# Altium schematic symbol library MCU127_M2-CC3351_RevA.SCHLIB: 42 symbols
Pins are listed as number, name and electrical type; pins without a type are passive.

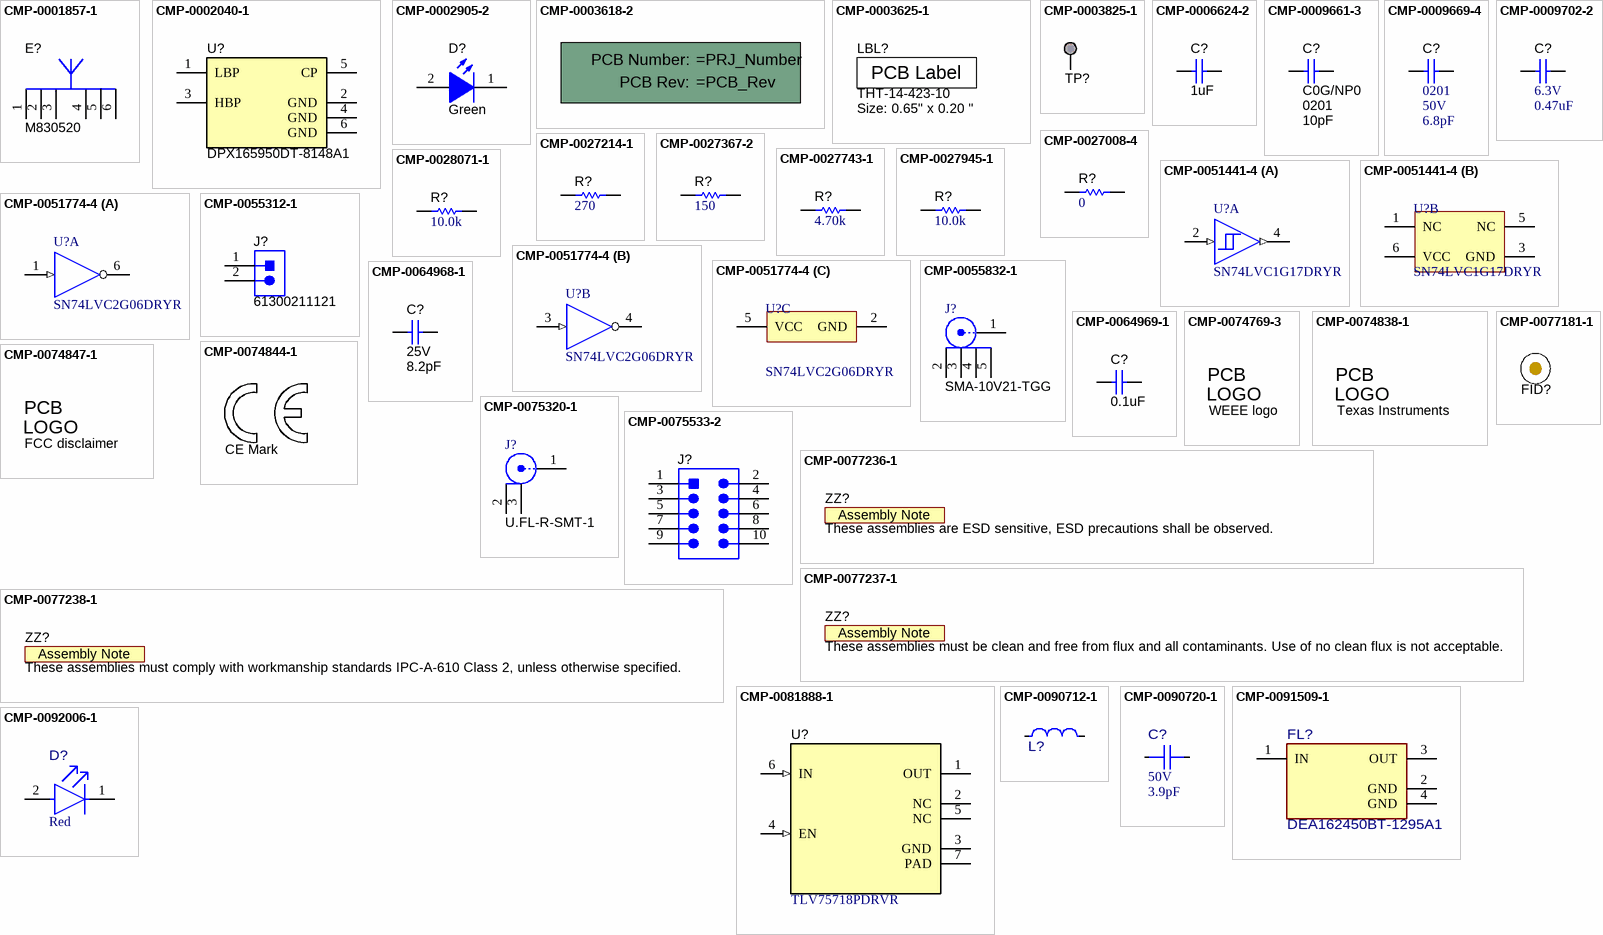
[diagram p0: symbols CMP-0001857-1 to CMP-0092006-1]

## CMP-0001857-1
designator E?, comment M830520
WLAN ANTENNA 802.11, SMD; Manufacturer: Ethertronics; Alternate Manufacturer: ----; SizeAreaWB_mm2: 50; SizeArea_mm2: 24; SizeX_mm: 3; SizeY_mm: 8; SizeZ_mm: 1.33; PartNumber: M830520; CompType: Antenna; MountType: SMT; ComponentLink1Description: Datasheet URL; ComponentLink1URL: http://www.ethertronics.com/files/6014/0708/4228/Savvi_WLAN__8x3_M830510.pdf; RoHS: Y; PackageReference: 8x3mm; Publisher: Texas Instruments; LatestRevisionDate: 09/03/2017; Alternate PartNumber: ----
footprint Ethertronics_M830520 (SMD, 6-Leads, Body 8x3mm)
pins: 1 Feed, 2 GND (power), 3 GND (power), 4 Feed, 5, 6

## CMP-0002040-1
designator U?  PartNumber: DPX165950DT-8148A1  (hidden comment: CMP-0002040-1)
Multilayer Diplexer for 2.4GHz W-LAN & Bluetooth / 5GHz W-LAN; Manufacturer: TDK; Alternate Manufacturer: ----; SizeAreaWB_mm2: 4.68; SizeArea_mm2: 1.28; SizeX_mm: 0.8; SizeY_mm: 1.6; SizeZ_mm: 0.7; CompType: Diplexer; MountType: SMT; ComponentLink1Description: Datasheet URL; ComponentLink1URL: https://sps06.itg.ti.com/sites/KMS/crossdivteams/altium/docs/ComponentDatasheets/DPX165950DT-8148A1.pdf; RoHS: Y; PackageReference: 1.6x0.8mm; Publisher: Texas Instruments; LatestRevisionDate: 09/03/2017; Alternate PartNumber: ----; Supplier 1: Digi-Key; Supplier Part Number 1: 445-174759-1-ND; Supplier 2: Mouser; Supplier Part Number 2: 810-DPX16595DT8148A1
footprint TDK_DPX165950DT-8148A1 (SMD, 6-Leads, Body 1.6x0.8mm)
pins: 1 LBP, 2 GND (power), 3 HBP, 4 GND (power), 5 CP, 6 GND (power)

## CMP-0002905-2
designator D?, comment value Green  (hidden comment: CMP-0002905-1)
LED, Green, SMD; Manufacturer: Wurth Elektronik; PartNumber: 150060GS75000; Type: InGaN; Vf_V: 3.2V; Io_A: 20mA; Tjmax_C: 85°C; Value1: W; Angle: 140; CompType: LED; MountType: SMT; RoHS: Y; PackageReference: LED_0603; Value2: 3.2V; Color: Green; ComponentLink1URL: http://katalog.we-online.de/led/datasheet/150060GS75000.pdf; ComponentLink1Description: Datasheet link
footprint WL-SMCW_GREEN (WURTH)
pins: 1 K, 2 A

## CMP-0003618-2
designator PCB?, comment Printed Circuit Board  (value not drawn)  (mechanical)
Manufacturer: Any; CompType: PCB; PartNumber: =PRJ_Number; RoHS: O; MountType: N/A; Publisher: Texas Instruments; LatestRevisionDate: 2017-03-09; Key: PCB
1 alternate drawing of the same symbol
text: PCB Number:; PCB Rev:

## CMP-0003625-1
designator LBL?, comment THT-14-423-10  Note: Size: 0.65" x 0.20 "  (no BOM)
Thermal Transfer Printable Labels, 0.650" W x 0.200" H - 10,000 per roll; Manufacturer: Brady; CompType: Label; ClassName: Label; PartNumber: THT-14-423-10; RoHS: Y; PackageReference: PCB Label 0.650 x 0.200 inch; MountType: N/A; ComponentLink1Description: Web Page; ComponentLink1URL: http://www.bradyid.com/bradyid/pdpv/THT-14-423-10.html; Publisher: Texas Instruments; LatestRevisionDate: 2017-03-09; Supplier 1: Newark; Supplier Part Number 1: 97C5133; Supplier 2: Farnell; Supplier Part Number 2: 2065596; Key: THT-14-423-10
footprint Label_650x200 (Thermal Transfer Label)
text: PCB Label

## CMP-0003825-1
designator TP?, comment TP_SM_1MM  (value not drawn)  (no BOM)
1mm Test Point, SMT; Manufacturer: Any; ComponentLink1URL: https://sps06.itg.ti.com/sites/KMS/crossdivteams/altium/docs/ComponentDatasheets/PROBE_TEST_POINT.png; Key: TP_SM_1MM; Publisher: Texas Instruments; CompType: Test Point; PackageReference: 1mm Test Point, SMT; LatestRevisionDate: 2017-03-09; MountType: SMT; PartNumber: TP_SM_1MM; ComponentLink1Description: Datasheet Link
footprint TP_SM_1MM (1mm Test Point, SMT)
pins: 1

## CMP-0006624-2
designator C?, comment ValueDisplayed: 1uF  (hidden comment: GRM155R70J105MA12D)
CAP, CERM, 1 uF, 6.3 V, +/- 20%, X7R, 0402; Manufacturer: MuRata; TaMin_C: -55°C; Polarized: N; SizeAreaWB_mm2: 3; Value1: Unknown; U/M: EA; Value: 1uF; TaMax_C: 125°C; SizeZ_mm: 0.6; SizeX_mm: 1; SizeY_mm: 0.5; Cap_Case: 0402; Value2: 6.3V; CompType: Capacitor; Cap_F: 1µF; AEC Category: Q200; Supplier Part Number 2: 81-GRM155R70J105MA2D; Publisher: Texas Instruments; Supplier 2: Mouser; TempCo: X7R; Published: 2008-06-19; RoHS: Y; MountType: SMT; Supplier 1: Digi-Key; PackageReference: 0402; Tolerance_%: 20%; SizeArea_mm2: 0.5; LatestRevisionDate: 2017-03-09; PartNumber: GRM155R70J105MA12D; AEC Qualified: N; VDC_V: 6.3V; ComponentLink1Description: Datasheet link; AEC Grade: N/A; Supplier Part Number 1: 490-9665-1-ND; Technology: Ceramic; ComponentLink1URL: http://psearch.en.murata.com/capacitor/product/GRM155R70J105MA12%23.pdf
footprint 0402 (0402 from SM-752 data)
footprint 0402S (Based on C0402S footprint from PADS legacy)
footprint 0402L (0402 from SM-752 data)
footprint 0402M (0402 from SM-752 data)
pins: 1, 2

## CMP-0009661-3
designator C?, comment TempCo: C0G/NP0  Cap_Case: 0201  ValueDisplayed: 10pF  (hidden comment: GJM0335C1E100JB01D)
CAP, CERM, 10 pF, 25 V, +/- 5%, C0G/NP0, 0201; Manufacturer: MuRata; TaMin_C: -55°C; Polarized: N; SizeAreaWB_mm2: 2.08; Value1: Unknown; U/M: EA; Value: 10pF; TaMax_C: 125°C; SizeZ_mm: 0.26; SizeX_mm: 0.6; SizeY_mm: 0.3; Value2: 25V; SizeArea_mm2: 0.18; CompType: Capacitor; AEC Category: Q200; Supplier Part Number 2: 81-GJM0335C1E100JB1D; Publisher: Texas Instruments; Supplier 2: Mouser; Published: 2008-06-19; RoHS: Y; MountType: SMT; Supplier 1: Digi-Key; PackageReference: 0201; Tolerance_%: 5%; LatestRevisionDate: 2017-03-09; PartNumber: GJM0335C1E100JB01D; AEC Qualified: N; Cap_F: 10pF; VDC_V: 25V; ComponentLink1Description: Datasheet link; AEC Grade: N/A; Supplier Part Number 1: GJM0335C1E100JB01D-ND; Technology: Ceramic; ComponentLink1URL: http://search.murata.co.jp/Ceramy/image/img/A01X/G101/ENG/GJM0335C1E100JB01-01.pdf
footprint 0201 (Data from Kemet datasheet CC101_COM dated 7/28/11)
footprint 0201_Silk (Data from Kemet datasheet CC101_COM dated 7/28/11)
footprint 0201L (Data from Kemet datasheet CC101_COM dated 7/28/11)
footprint 0201M (Data from Kemet datasheet CC101_COM dated 7/28/11)
pins: 1, 2

## CMP-0009669-4
designator C?, comment PackageReference: 0201  VDC_V: 50V  ValueDisplayed: 6.8pF  (hidden comment: GRM0335C1H6R8BA01D)
CAP, CERM, 6.8 pF, 50 V, +/- 2%, C0G/NP0, 0201; Manufacturer: MuRata; TaMin_C: -55°C; Polarized: N; SizeAreaWB_mm2: 2.08; Value1: Unknown; U/M: EA; Value: 6.8pF; TaMax_C: 125°C; SizeZ_mm: 0.26; SizeX_mm: 0.6; SizeY_mm: 0.3; SizeArea_mm2: 0.18; CompType: Capacitor; AEC Category: Q200; Supplier Part Number 2: 81-GRM0335C1H6R8BA1D; Publisher: Texas Instruments; Supplier 2: Mouser; TempCo: C0G/NP0; Published: 2008-06-19; RoHS: Y; MountType: SMT; Supplier 1: Digi-Key; Tolerance_%: 2%; Cap_Case: 0201; Value2: 50V; LatestRevisionDate: 2017-03-09; PartNumber: GRM0335C1H6R8BA01D; AEC Qualified: N; Cap_F: 6.8pF; ComponentLink1Description: Datasheet link; AEC Grade: N/A; Supplier Part Number 1: GRM0335C1H6R8BA01D-ND; Technology: Ceramic; ComponentLink1URL: http://search.murata.co.jp/Ceramy/image/img/A01X/G101/ENG/GRM0335C1H6R8BA01-01.pdf
footprint 0201 (Data from Kemet datasheet CC101_COM dated 7/28/11)
footprint 0201_Silk (Data from Kemet datasheet CC101_COM dated 7/28/11)
footprint 0201L (Data from Kemet datasheet CC101_COM dated 7/28/11)
footprint 0201M (Data from Kemet datasheet CC101_COM dated 7/28/11)
pins: 1, 2

## CMP-0009702-2
designator C?, comment VDC_V: 6.3V  ValueDisplayed: 0.47uF  (hidden comment: GRM033R60J474KE90D)
CAP, CERM, 0.47 uF, 6.3 V, +/- 10%, X5R, 0201; Manufacturer: MuRata; TaMin_C: -55°C; Polarized: N; SizeAreaWB_mm2: 2.08; Value1: Unknown; U/M: EA; Value: 0.47uF; TaMax_C: 85°C; SizeZ_mm: 0.33; SizeX_mm: 0.6; SizeY_mm: 0.3; Cap_Case: 0201; SizeArea_mm2: 0.18; CompType: Capacitor; Cap_F: 470nF; AEC Category: Q200; Supplier Part Number 2: 81-GRM33R60J474KE90D; Publisher: Texas Instruments; Supplier 2: Mouser; TempCo: X5R; Published: 2008-06-19; RoHS: Y; MountType: SMT; Supplier 1: Digi-Key; PackageReference: 0201; Tolerance_%: 10%; Value2: 6.3V; LatestRevisionDate: 2017-03-09; PartNumber: GRM033R60J474KE90D; AEC Qualified: N; ComponentLink1Description: Datasheet link; AEC Grade: N/A; Supplier Part Number 1: 490-10409-1-ND; Technology: Ceramic; ComponentLink1URL: http://psearch.en.murata.com/capacitor/product/GRM033R60J474KE90%23.pdf
footprint 0201_033 (SMD, 2-Leads, Height 0.33mm)
footprint 0201_033L (0201)
footprint 0201_033M (0201)
pins: 1, 2

## CMP-0027008-4
designator R?, comment ValueDisplayed: 0  (hidden comment: CRCW02010000Z0ED)
RES, 0, 5%, 0.05 W, 0201; Manufacturer: Vishay-Dale; Power_W: 50mW; TempCo: ppm/C; Value_Code: 0000; Value: 0; EIA_Code: E24; SizeX_mm: 0.6; SizeY_mm: 0.3; SizeZ_mm: 0.26; Value2: 0.05W; SizeArea_mm2: 0.18; CompType: Resistor; AEC Qualified: N; AEC Category: Q200; RoHS: E; Value1: 5%; MountType: SMT; Supplier 1: Newark; PackageReference: 0201; Tolerance_%: 5%; Res_ohm: 0; PartNumber: CRCW02010000Z0ED; ComponentLink1Description: Datasheet link; AEC Grade: N/A; Supplier Part Number 1: 72M6743; Technology: Thick Film; ComponentLink1URL: http://www.vishay.com/docs/20052/crcw0201e3.pdf
footprint 0201 (Data from Kemet datasheet CC101_COM dated 7/28/11)
footprint 0201_Silk (Data from Kemet datasheet CC101_COM dated 7/28/11)
footprint 0201L (Data from Kemet datasheet CC101_COM dated 7/28/11)
footprint 0201M (Data from Kemet datasheet CC101_COM dated 7/28/11)
pins: 1, 2

## CMP-0027214-1
designator R?, comment ValueDisplayed: 270  (hidden comment: RC0201FR-07270RL)
RES, 270, 5%, 0.05 W, 0201; Manufacturer: Yageo America; PartNumber: RC0201JR-7D270RL; Power_W: 50mW; TempCo: 200 ppm/C; Value_Code: 270R; U/M: EA; Value: 270; EIA_Code: E24; SizeX_mm: 0.6; SizeY_mm: 0.3; SizeZ_mm: 0.26; Value2: 0.05W; SizeArea_mm2: 0.18; CompType: Resistor; AEC Qualified: N; VDC_V: 25V; AEC Category: Q200; ComponentLink1URL: http://www.yageo.com/documents/recent/PYu-RC_Group_51_RoHS_L_5.pdf; Publisher: Texas Instruments; Published: 2016-10-14; RoHS: Y; Value1: 5%; MountType: SMT; Supplier 1: Mouser; PackageReference: 0201; Tolerance_%: 5%; Res_ohm: 270; LatestRevisionDate: 2017-03-09; ComponentLink1Description: Datasheet link; AEC Grade: N/A; Supplier Part Number 1: 603-RC0201JR-7D270RL; Technology: Thick Film
footprint 0201 (Data from Kemet datasheet CC101_COM dated 7/28/11)
footprint 0201_Silk (Data from Kemet datasheet CC101_COM dated 7/28/11)
footprint 0201L (Data from Kemet datasheet CC101_COM dated 7/28/11)
footprint 0201M (Data from Kemet datasheet CC101_COM dated 7/28/11)
pins: 1, 2

## CMP-0027367-2
designator R?, comment ValueDisplayed: 150  (hidden comment: RC0201FR-07150RL)
RES, 150, 1%, 0.05 W, 0201; Manufacturer: Yageo America; Power_W: 50mW; TempCo: 200 ppm/C; Value_Code: 150R; U/M: EA; Value: 150; EIA_Code: E96; SizeX_mm: 0.6; SizeY_mm: 0.3; SizeZ_mm: 0.26; Value2: 0.05W; SizeArea_mm2: 0.18; CompType: Resistor; AEC Qualified: N; VDC_V: 25V; AEC Category: Q200; Supplier Part Number 2: 603-RC0201FR-07150RL; Publisher: Texas Instruments; Supplier 2: Mouser; Published: 2016-10-14; RoHS: Y; Value1: 1%; MountType: SMT; Supplier 1: Digi-Key; PackageReference: 0201; Tolerance_%: 1%; Res_ohm: 150; LatestRevisionDate: 2017-03-09; PartNumber: RC0201FR-07150RL; ComponentLink1Description: Datasheet link; AEC Grade: N/A; Supplier Part Number 1: YAG2273CT-ND; Technology: Thick Film; ComponentLink1URL: http://www.yageo.com/documents/recent/PYu-RC_Group_51_RoHS_L_5.pdf
footprint 0201 (Data from Kemet datasheet CC101_COM dated 7/28/11)
footprint 0201_Silk (Data from Kemet datasheet CC101_COM dated 7/28/11)
footprint 0201L (Data from Kemet datasheet CC101_COM dated 7/28/11)
footprint 0201M (Data from Kemet datasheet CC101_COM dated 7/28/11)
pins: 1, 2

## CMP-0027743-1
designator R?, comment ValueDisplayed: 4.70k  (hidden comment: RC0201FR-074K7L)
RES, 4.70 k, 1%, 0.05 W, 0201; Manufacturer: Yageo America; Power_W: 50mW; TempCo: 200 ppm/C; Value_Code: 4k70; U/M: EA; Value: 4.70k; Res_ohm: 4.7k; SizeX_mm: 0.6; SizeY_mm: 0.3; SizeZ_mm: 0.26; Value2: 0.05W; SizeArea_mm2: 0.18; CompType: Resistor; AEC Qualified: N; VDC_V: 25V; AEC Category: Q200; ComponentLink1URL: http://www.yageo.com/documents/recent/PYu-RC_Group_51_RoHS_L_5.pdf; Supplier Part Number 2: 603-RC0201FR-074K7L; Publisher: Texas Instruments; Supplier 2: Mouser; Published: 2016-10-14; RoHS: Y; Value1: 1%; MountType: SMT; Supplier 1: Digi-Key; PackageReference: 0201; Tolerance_%: 1%; LatestRevisionDate: 2017-03-09; PartNumber: RC0201FR-074K7L; ComponentLink1Description: Datasheet link; AEC Grade: N/A; Supplier Part Number 1: 311-4.70KMCT-ND; Technology: Thick Film
footprint 0201 (Data from Kemet datasheet CC101_COM dated 7/28/11)
footprint 0201_Silk (Data from Kemet datasheet CC101_COM dated 7/28/11)
footprint 0201L (Data from Kemet datasheet CC101_COM dated 7/28/11)
footprint 0201M (Data from Kemet datasheet CC101_COM dated 7/28/11)
pins: 1, 2

## CMP-0027945-1
designator R?, comment ValueDisplayed: 10.0k  (hidden comment: RC0201FR-7D10KL)
RES, 10.0 k, 1%, 0.05 W, 0201; Manufacturer: Yageo America; Power_W: 50mW; TempCo: 200 ppm/C; Value_Code: 10k0; U/M: EA; Value: 10.0k; EIA_Code: E96; Res_ohm: 10k; SizeX_mm: 0.6; SizeY_mm: 0.3; SizeZ_mm: 0.26; Value2: 0.05W; SizeArea_mm2: 0.18; CompType: Resistor; AEC Qualified: N; VDC_V: 25V; AEC Category: Q200; ComponentLink1URL: http://www.yageo.com/documents/recent/PYu-RC_Group_51_RoHS_L_5.pdf; Publisher: Texas Instruments; Published: 2016-10-14; RoHS: Y; Value1: 1%; MountType: SMT; Supplier 1: Mouser; PackageReference: 0201; Tolerance_%: 1%; LatestRevisionDate: 2017-03-09; PartNumber: RC0201FR-7D10KL; ComponentLink1Description: Datasheet link; AEC Grade: N/A; Supplier Part Number 1: 603-RC0201FR-7D10KL; Technology: Thick Film
footprint 0201 (Data from Kemet datasheet CC101_COM dated 7/28/11)
footprint 0201_Silk (Data from Kemet datasheet CC101_COM dated 7/28/11)
footprint 0201L (Data from Kemet datasheet CC101_COM dated 7/28/11)
footprint 0201M (Data from Kemet datasheet CC101_COM dated 7/28/11)
pins: 1, 2

## CMP-0028071-1
designator R?, comment ValueDisplayed: 10.0k  (hidden comment: RC0201FS-7D10KL)
RES, 10.0 k, 1%, 0.05 W, 0201; Manufacturer: Yageo America; Power_W: 50mW; TempCo: 200 ppm/C; Value_Code: 10k0; U/M: EA; Value: 10.0k; EIA_Code: E96; Res_ohm: 10k; SizeX_mm: 0.6; SizeY_mm: 0.3; SizeZ_mm: 0.26; Value2: 0.05W; SizeArea_mm2: 0.18; CompType: Resistor; AEC Qualified: N; VDC_V: 25V; AEC Category: Q200; ComponentLink1URL: http://www.yageo.com/documents/recent/PYu-RC_Group_51_RoHS_L_5.pdf; Publisher: Texas Instruments; Published: 2016-10-14; RoHS: Y; Value1: 1%; MountType: SMT; Supplier 1: Mouser; PackageReference: 0201; Tolerance_%: 1%; LatestRevisionDate: 2017-03-09; PartNumber: RC0201FS-7D10KL; ComponentLink1Description: Datasheet link; AEC Grade: N/A; Supplier Part Number 1: 603-RC0201FS-7D10KL; Technology: Thick Film
footprint 0201 (Data from Kemet datasheet CC101_COM dated 7/28/11)
footprint 0201_Silk (Data from Kemet datasheet CC101_COM dated 7/28/11)
footprint 0201L (Data from Kemet datasheet CC101_COM dated 7/28/11)
footprint 0201M (Data from Kemet datasheet CC101_COM dated 7/28/11)
pins: 1, 2

## CMP-0051441-4
designator U?, comment SN74LVC1G17DRYR
Single Schmitt-Trigger Buffer, DRY0006A (USON-6); Manufacturer: Texas Instruments; Output Type: CMOS; Bits(#): 1; Input Type: CMOS/TTL; Technology Family: LVC; Schmitt Trigger: Yes; 3-State Output: No; VCC(Max)(V): 5.5; Rating: Catalog; Output Drive (IOL/IOH)(Max)(mA): 32/-32; ICC @ Nom Voltage(Max)(mA): 0.01; VCC(Min)(V): 1.65; F @ Nom Voltage(Max)(Mhz): 150; Logic: True; Voltage(Nom)(V): 1.8,2.5,3.3,5; tpd @ Nom Voltage(Max)(ns): 11,6.5,5.5,5; AEC Category: Q200; AEC Qualified: N; CompType: IC; SizeAreaWB_mm2: 4.9; SizeArea_mm2: 1.45; SizeX_mm: 1.0; SizeZ_mm: 0.6; Operating Temperature Range(C): -40 to 125,-40 to 85; PackageReference: DRY0006A; Generic Part Number: SN74LVC1G17; ComponentLink1Description: Datasheet Link; ComponentLink1URL: http://www.ti.com/lit/ds/symlink/sn74lvc1g17.pdf; ComponentLink2Description: Product Folder; ComponentLink2URL: http://www.ti.com/product/sn74lvc1g17; ComponentLink3Description: Online Datasheet; ComponentLink3URL: http://www.ti.com/product/sn74lvc1g17/datasheet; MountType: SMT; PackageDescription: USON-6; PartNumber: SN74LVC1G17DRYR; SizeY_mm: 1.45; Operating Temperature Range: -40 to 125 C
footprint DRY0006A (USON-6)
part A pins: 2 A (in) "Input", 4 Y (out) "Output"
part B pins: 1 NC "Not connected", 3 GND (power) "Ground", 5 NC "Not connected", 6 VCC (power) "Power pin"

## CMP-0051774-4
designator U?, comment SN74LVC2G06DRYR
Dual Inverter Buffer/Driver with Open-Drain Output, DRY0006A (USON-6); Manufacturer: Texas Instruments; Output Type: CMOS; Bits(#): 2; Input Type: CMOS/TTL; Technology Family: LVC; Schmitt Trigger: No; VCC(Max)(V): 5.5; Rating: Catalog; Output Drive (IOL/IOH)(Max)(mA): 32/-32; ICC @ Nom Voltage(Max)(mA): 0.01; VCC(Min)(V): 1.65; F @ Nom Voltage(Max)(Mhz): 150; Logic: Inverting; Voltage(Nom)(V): 1.8,2.5,3.3,5; tpd @ Nom Voltage(Max)(ns): 8.2,4.4,3.9,3.4; AEC Category: Q200; AEC Qualified: N; CompType: IC; SizeAreaWB_mm2: 4.9; SizeArea_mm2: 1.45; SizeX_mm: 1.0; SizeZ_mm: 0.6; 3-State Output: No; Operating Temperature Range(C): -40 to 125,-40 to 85; PackageReference: DRY0006A; Generic Part Number: SN74LVC2G06; ComponentLink1Description: Datasheet Link; ComponentLink1URL: http://www.ti.com/lit/ds/symlink/sn74lvc2g06.pdf; ComponentLink2Description: Product Folder; ComponentLink2URL: http://www.ti.com/product/sn74lvc2g06; ComponentLink3Description: Online Datasheet; ComponentLink3URL: http://www.ti.com/product/sn74lvc2g06/datasheet; MountType: SMT; PackageDescription: USON-6; PartNumber: SN74LVC2G06DRYR; SizeY_mm: 1.45; Operating Temperature Range: -40 to 125 C
footprint DRY0006A (USON-6)
part A pins: 1 1A (in), 6 1Y (oc)
part B pins: 3 2A (in), 4 2Y (oc)
part C pins: 2 GND (power), 5 VCC (power)

## CMP-0055312-1
designator J?, comment 61300211121
Header, 100mil, 2x1, Tin, TH; Manufacturer: Molex; PartNumber: 90120-0122; CNHeader: TRUE; Green_Lifecycle: Active; Green_REACh: Passed; CT: FALSE; ComponentLink1URL: http://www.molex.com/pdm_docs/sd/901200122_sd.pdf; ClassName: Header; Supplier Part Number 2: 19M8215; Publisher: Texas Instruments; Supplier 2: Newark; Supplier Part Number 3: 538-90120-0122; Supplier 3: Mouser; RoHS: Y; MountType: TH; Green_EU RoHS-2: Passed; Supplier 1: Digi-Key; Green_EU RoHS: Passed; PackageReference: Header 2x1; CompType: Header; LatestRevisionDate: 26/05/2017; ComponentLink1Description: Datasheet URL; Supplier Part Number 1: WM8072-ND
footprint CONN_90120-0122 (Molex)
footprint WURTH_61300211121
pins: 1, 2
1 alternate drawing of the same symbol

## CMP-0055832-1
designator J?, comment SMA-10V21-TGG
Connector, SMA, Vertical, Gold, SMT; Manufacturer: Hus-Tsan Group Co., Ltd.; CT: TRUE; CNHeader: FALSE; ComponentLink1URL: https://sps06.itg.ti.com/sites/KMS/crossdivteams/altium/docs/ComponentDatasheets/SMA-10V21.pdf; Publisher: Texas Instruments; CompType: SMA; PackageReference: SMD, 4-Leads, Body 7.1x7.1mm; LatestRevisionDate: 26/05/2017; RoHS: Y; MountType: SMT; PartNumber: SMA-10V21-TGG; ComponentLink1Description: Datasheet URL
footprint Hustsan_SMA-10V21-TGG (SMD, 4-Leads, Body 7.1x7.1mm)
pins: 1, 2, 3, 4, 5

## CMP-0064968-1
designator C?, comment VDC_V: 25V  ValueDisplayed: 8.2pF  (hidden comment: GJM0335C1E100JB01D)
CAP, CERM, 8.2 pF, 25 V,+/- 1.2%, C0G/NP0, 0201; Manufacturer: MuRata; PartNumber: GRM0335C1E8R2BA01D; TaMin_C: -55°C; Polarized: N; SizeAreaWB_mm2: 2.08; Value1: Unknown; U/M: EA; Value: 8.2pF; TaMax_C: 125°C; SizeZ_mm: 0.26; SizeX_mm: 0.6; SizeY_mm: 0.3; Cap_Case: 0201; SizeArea_mm2: 0.18; CompType: Capacitor; AEC Category: Q200; ComponentLink1URL: http://search.murata.co.jp/Ceramy/image/img/A01X/G101/ENG/GRM0335C1E8R2BA01-01.pdf; Supplier Part Number 2: 81-GRM0335C1E8R2BA1D; Publisher: Texas Instruments; Supplier 2: Mouser; TempCo: C0G/NP0; Published: 2008-06-19; RoHS: Y; MountType: SMT; Supplier 1: Digi-Key; PackageReference: 0201; Tolerance_%: 1.2%; Value2: 25V; LatestRevisionDate: 2017-06-05; AEC Qualified: N; Cap_F: 8.2pF; ComponentLink1Description: Datasheet link; AEC Grade: N/A; Supplier Part Number 1: GRM0335C1E8R2BA01D; Technology: Ceramic
footprint 0201 (Data from Kemet datasheet CC101_COM dated 7/28/11)
footprint 0201_Silk (Data from Kemet datasheet CC101_COM dated 7/28/11)
footprint 0201L (Data from Kemet datasheet CC101_COM dated 7/28/11)
footprint 0201M (Data from Kemet datasheet CC101_COM dated 7/28/11)
pins: 1, 2

## CMP-0064969-1
designator C?, comment ValueDisplayed: 0.1uF  (hidden comment: GRM033C71A104KE14D)
CAP, CERM, 0.1 uF, 10 V,+/- 10%, X7S, 0201; Manufacturer: MuRata; TaMin_C: -55°C; Polarized: N; SizeAreaWB_mm2: 2.08; Value1: Unknown; U/M: EA; Value: 0.1uF; TaMax_C: 125°C; SizeZ_mm: 0.26; SizeX_mm: 0.6; SizeY_mm: 0.3; Cap_Case: 0201; Value2: 10V; SizeArea_mm2: 0.18; CompType: Capacitor; Cap_F: 100nF; AEC Category: Q200; ComponentLink1URL: http://search.murata.co.jp/Ceramy/image/img/A01X/G101/ENG/GRM033C71A104KE14-01.pdf; Supplier Part Number 2: 81-GRM033C71A104KE4D; Publisher: Texas Instruments; Supplier 2: Mouser; TempCo: X7S; Published: 2008-06-19; RoHS: Y; MountType: SMT; Supplier 1: Digi-Key; PackageReference: 0201; Tolerance_%: 10%; LatestRevisionDate: 2017-06-05; PartNumber: GRM033C71A104KE14D; AEC Qualified: N; VDC_V: 10V; ComponentLink1Description: Datasheet link; AEC Grade: N/A; Supplier Part Number 1: 490-14450-1-ND; Technology: Ceramic
footprint 0201 (Data from Kemet datasheet CC101_COM dated 7/28/11)
footprint 0201_Silk (Data from Kemet datasheet CC101_COM dated 7/28/11)
footprint 0201L (Data from Kemet datasheet CC101_COM dated 7/28/11)
footprint 0201M (Data from Kemet datasheet CC101_COM dated 7/28/11)
pins: 1, 2

## CMP-0074769-3
designator Logo?, comment WEEE logo  (no BOM)
Manufacturer: Texas Instruments; CompType: IC; AEC Category: Q200; Library Reference: WEEE logo; Lib Reference: WEEE logo; PartNumber: WEEE logo; ComponentLink2URL: http://www.ti.com/product/GPN; ComponentLink1URL: http://www.ti.com/lit/ds/symlink/GPN.pdf; ComponentLink3URL: http://www.ti.com/product/GPN/datasheet; ComponentLink1Description: Datasheet Link; ComponentLink3Description: Online Datasheet; ComponentLink2Description: Product Folder
footprint WEEE_Minimum (WEEElie bin)
text: PCB; LOGO

## CMP-0074838-1
designator Logo?, comment Texas Instruments  (no BOM)
Texas Instrument Corporate Signature; SymbolCreator: a0412235; Lib Reference: TI_Logo; Library Reference: Logo; SymbolVersion: 2011-08-22; Published: 2009-03-03; Publisher: Texas Instruments; ClassName: Logo; LatestRevisionDate: 2017-07-06; PartNumber: Texas Instruments
footprint TI_Horizontal_Overlay_Medium
footprint TI_Horizontal_Overlay_Small
footprint TI_Stacked_SolderMask_Small
footprint TI_Stacked_SolderMask_Small_Vertical
footprint TI_Symbol_Overlay_Medium
footprint TI_Symbol_Overlay_Small
footprint TI_Symbol_SolderMask_Medium
footprint TI_Symbol_SolderMask_Small
footprint TI_Horizontal_SolderMask_Medium
footprint TI_Horizontal_SolderMask_Small
footprint TI_Stacked_Overlay_Medium
footprint TI_Stacked_Overlay_Medium_Vertical
footprint TI_Stacked_Overlay_Small
footprint TI_Stacked_Overlay_Small_Vertical
footprint TI_Stacked_SolderMask_Medium
footprint TI_Stacked_SolderMask_Medium_Vertical
text: PCB; LOGO

## CMP-0074844-1
designator LOGO?, comment CE Mark  (no BOM)
SymbolCreator: a0412235; Publisher: Texas Instruments; Library Reference: CE Mark; Lib Reference: CE Mark; LatestRevisionDate: 2017-07-06; PartNumber: CE Mark; Published: 2009-03-03
footprint CE_Mark_5mm (Minimum text height for CE Mark)
footprint CE_Mark_10mm (Double the minimum text height for CE Mark)

## CMP-0074847-1
designator Logo?, comment FCC disclaimer  (no BOM)
FCC_disclaimer; Library Reference: Logo; Published: 2009-03-03; Publisher: Texas Instruments; LatestRevisionDate: 2017-07-06; Lib Reference: FCC_disclaimer; PartNumber: FCC disclaimer
footprint FCC_disclaimer
footprint FCC_disclaimer_stacked
text: PCB; LOGO

## CMP-0075320-1
designator J?, comment U.FL-R-SMT-1
Receptacle, Ultra Miniature Coaxial, Male Pin, 50 ohm, SMT; Manufacturer: Hirose Electric Co. Ltd.; PartNumber: U.FL-R-SMT-1(01); CNHeader: False; Gender: Female; ContactFinish: Gold; ComponentLink1URL: https://www.hirose.com/product/en/download_file/key_name/U.FL%2DR%2DSMT%2D1%2801%29/category/Drawing%20(2D)/doc_file_id/37625/?file_category_id=6&item_id=03310472201&is_series=; Supplier Part Number 2: 18K7517; Publisher: Texas Instruments; Supplier 2: Newark; Supplier Part Number 3: 798-U.FL-R-SMT01; Color: Beige; Supplier 3: Mouser; RoHS: Y; MountType: SMT; Supplier 1: Digi-Key; PackageReference: Ultra small CO-AX SMD; PinCount: 3; CompType: Receptacle; LatestRevisionDate: 2017-07-12; Orientation: Vertical; ComponentLink1Description: Datasheet URL; Supplier Part Number 1: H122041-ND; CT: False
footprint CONN_UFL-R-SMT-1 (Hirose recommended land pattern http://www.hirose.co.jp/cataloge_hp/e32119372.pdf 2009.2)
pins: 1, 2, 3

## CMP-0075533-2
designator J?, comment CMP-0075533-1  (value not drawn)
Header, 1.27 mm, 5x2, Gold, TH; PartNumber: FTSH-105-01-F-D-K; Manufacturer: Samtec; Pitch_mm: 1.27; Gender: Male; Green_REACh: Passed; Shrouded: Y; Green_Lifecycle: Active; Row_Count: 2; PackageReference: Header, 1.27 mm, 5x2, TH; CompType: Header; RoHS: Y; MountType: TH; ComponentLink1Description: Datasheet URL; ComponentLink1URL: https://www.samtec.com/ftppub/cpdf/FTSH-1XX-XX-XXX-D-XX-MKT.pdf; Supplier 1: Digi-Key; Supplier Part Number 1: FTSH-105-01-F-D-K-ND; Supplier 2: Newark; Supplier Part Number 2: 01R3389; Orientation: Vertical; Green_EU RoHS: Passed; Color: Black; PinCount: 10; ContactFinish: Gold; RowSpacing_mm: 1.27; Green_EU RoHS-2: Passed
footprint Samtec_FTSH-105-01-x-D-K (Header, 1.27 mm, 5x2, TH)
pins: 1, 2, 3, 4, 5, 6, 7, 8, 9, 10
1 alternate drawing of the same symbol

## CMP-0077181-1
designator FID?, comment Fiducial  (value not drawn)  (no BOM)
Fiducial mark.  There is nothing to buy or mount.; CompType: Fiducial; Manufacturer: N/A; MountType: N/A; PackageReference: N/A; PartNumber: N/A; ClassName: FiducialMark; Library Reference: Fiducial
footprint Fiducial10-30
footprint Fiducial15-30
footprint Fiducial10-20
footprint Fiducial20-40
footprint Fiducial6.4-20

## CMP-0077236-1
designator ZZ?, comment These assemblies are ESD sensitive, ESD precautions shall be observed.  (no BOM)
CompType: AssemblyNote; ClassName: AssemblyNote; Publisher: Texas Instruments; LatestRevisionDate: 2017-08-10; Key: AssemblyNote
footprint AssemblyNote (Assembly Note)
text: Assembly Note

## CMP-0077237-1
designator ZZ?, comment These assemblies must be clean and free from flux and all contaminants. Use of no clean flux is not acceptable.  (no BOM)
CompType: AssemblyNote; ClassName: AssemblyNote; Publisher: Texas Instruments; LatestRevisionDate: 2017-08-10; Key: AssemblyNote
footprint AssemblyNote (Assembly Note)
text: Assembly Note

## CMP-0077238-1
designator ZZ?, comment These assemblies must comply with workmanship standards IPC-A-610 Class 2, unless otherwise specified.  (no BOM)
CompType: AssemblyNote; ClassName: AssemblyNote; Publisher: Texas Instruments; LatestRevisionDate: 2017-08-10; Key: AssemblyNote
footprint AssemblyNote (Assembly Note)
text: Assembly Note

## CMP-0081888-1
designator U?, comment TLV75718PDRVR
1A Low-Quiescent-Current Low-Dropout (LDO) Regulator, DRV0006A (WSON-6); Alternate Manufacturer: Texas Instruments; SizeAreaWB_mm2: 9; Rating: Catalog; SizeZ_mm: 0.8; SizeX_mm: 2; SizeArea_mm2: 4; CompType: IC; AEC Qualified: N; AEC Category: Q200; ComponentLink1URL: http://www.ti.com/lit/ds/symlink/tlv757p.pdf; PackageDescription: WSON-6; RoHS: Y; MountType: SMT; ComponentLink2URL: http://www.ti.com/product/tlv757p; ComponentLink3Description: Online Datasheet; ComponentLink2Description: Product Folder; Manufacturer: Texas Instruments; ComponentLink3URL: http://www.ti.com/product/tlv757p/datasheet; PackageReference: DRV0006A; SizeY_mm: 2; Operating Temperature Range: -40 to 125 C; PartNumber: TLV75718PDRVR; ComponentLink1Description: Datasheet Link
footprint DRV0006A (SON, 6-Leads, Body 2x2mm, Pitch 0.65mm, Thermal Pad 1.6x1mm, TI Recommended)
footprint DRV0006A_NV (SON, 6-Leads, Body 2x2mm, Pitch 0.65mm, Thermal Pad 1.6x1mm, TI Recommended)
pins: 1 OUT, 2 NC, 3 GND (power), 4 EN (in), 5 NC, 6 IN (in), 7 PAD (power)

## CMP-0090712-1
designator L?, comment LQP03HQ3N9B02D  (value not drawn)
3.9nH Unshielded Thick Film Inductor 500mA 170mOhm Max 0201 (0603 Metric); Manufacturer: Murata; Tolerance_%: 0.1nH; Test Frequency: 500MHz; Material: Non-Magnetic; TaMin_C: -55°C; SizeZ_mm: 0.42mm; TaMax_C: +125°C; AEC Qualified: No; DCR_ohm: 0.17; Q Factor: 20; Self Resonant Frequency: 7GHz; Operating Temperature Range: -55°C to +125°C; Digikey Description: FIXED IND 3.9NH 500MA 170 MOHM; Supplier 2: Mouser; Lead Free: Yes; Irms: 500mA; Value: 3.9nH; Supplier Part Number 2: 81-LQP03HQ3N9B02D; PackageReference: 0201; ComponentLink1Description: Datasheet; PartNumber: LQP03HQ3N9B02D; Mouser Part Number: 81-LQP03HQ3N9B02D; helpURL: https://upverter.com/upn/revision/484db5da8715fee4/; Digikey Part Number: 490-13933-1-ND; ComponentLink1URL: https://search.murata.co.jp/Ceramy/image/img/P02/JELF243C-0021.pdf; RoHS: TRUE; Supplier 1: Digikey; Supplier Part Number 1: 490-13933-1-ND; Datasheet Path: datasheets/Ind-LQP03HQ3N9B02D.pdf; Part Number: LQP03HQ3N9B02D; Technology: Thick Film; Ind_H: 3.9nH; datasheet: https://search.murata.co.jp/Ceramy/image/img/P02/JELF243C-0021.pdf
footprint FP-LQP03HQ3N9B02D_0201-MFG
footprint FP-LQP03HQ3N9B02D_0201-IPC_C
footprint FP-LQP03HQ3N9B02D_0201-IPC_B
footprint FP-LQP03HQ3N9B02D_0201-IPC_A
pins: 1, 2

## CMP-0090720-1
designator C?, comment VDC_V: 50V  ValueDisplayed: 3.9pF  (hidden comment: GRM0335C1H3R9BA01J)
Chip Multilayer Ceramic Capacitors for General Purpose, 0201, 3.9pF, C0G, 30ppm/°C, 0.1pF, 50V; Manufacturer: Murata; SizeZ_mm: 0.33mm; AEC Qualified: No; helpURL: https://upverter.com/upn/revision/8509981fa21c2bb2/; Temperature Characteristic: C0G; Lead Free: Yes; Cap_F: 3.9pF; Datasheet Path: datasheets/Cap-GRM0335C1H3R9BA01J.pdf; Value: 3.9pF; Part Number: GRM0335C1H3R9BA01J; ComponentLink1URL: https://www.murata.com/en-us/products/productdetail?partno=GRM0335C1H3R9BA01%23; PartNumber: GRM0335C1H3R9BA01J; datasheet: https://www.murata.com/en-us/products/productdetail?partno=GRM0335C1H3R9BA01%23; TempCo: 30ppm/°C; PackageReference: 0201; RoHS: TRUE; Operating Temperature Range: -55°C to +125°C; ComponentLink1Description: Datasheet
footprint FP-GRM0335C1H3R9BA01J_0201-MFG
footprint FP-GRM0335C1H3R9BA01J_0201-IPC_C
footprint FP-GRM0335C1H3R9BA01J_0201-IPC_B
footprint FP-GRM0335C1H3R9BA01J_0201-IPC_A
pins: 1, 2

## CMP-0091509-1
designator FL?, comment DEA162450BT-1295A1
2.45GHz Center Frequency Band Pass RF Filter (Radio Frequency) 100MHz Bandwidth 1.8dB 0603 (1608 Metric), 3 PC Pad; Manufacturer: TDK; Bandwidth: 2400-2500MHz; AEC Qualified: No; Insertion Loss: 1.95dB; SizeZ_mm: 0.7mm; RoHS: TRUE; Operating Temperature Range: -40°C to +85°C; datasheet: https://product.tdk.com/info/en/documents/data_sheet/rf_bpf_dea162450bt-1295a1_en.pdf; PackageReference: SMT_FILTER_1MM60_0MM80; Frequency_Fixed: 2.45GHz; helpURL: https://upverter.com/upn/revision/67a1f53e71daea06/; ComponentLink1Description: Datasheet; Mouser Part Number: 810-DEA162450BT1295A; Part Number: DEA162450BT-1295A1; Datasheet Path: datasheets/Filter-DEA162450BT-1295A1.pdf; Lead Free: Yes; PartNumber: DEA162450BT-1295A1; Filter Type: Band Pass; Mouser Description: RF Filter Band Pass 2450MHz 2400MHz to 2500MHz 1.95dB 50Ohm SMD 4Pin 0603 T/R; Digikey Description: RF FILTER BAND PASS 2.45GHZ 0603; ComponentLink1URL: https://product.tdk.com/info/en/documents/data_sheet/rf_bpf_dea162450bt-1295a1_en.pdf; Digikey Part Number: 445-175610-1-ND
footprint FP-DEA162450BT-1295A1_SMT_FILTER_1MM60_0MM80-MFG
pins: 1 IN, 2 GND (power), 3 OUT, 4 GND (power)

## CMP-0092006-1
designator D?, comment Color: Red  (hidden comment: CTL0603FRD1T-CT)
Red 630nm LED Indication - Discrete 1.5V 0603 (1608 Metric); Manufacturer: Venkel; Led Orientation: Top View; Vf_V: 2.4V; TaMin_C: -40°C; Vr_V: 5V; LambdaP: 640nm; Power_TotalModule: 60mW; TaMax_C: +85°C; Forward Current: 20mA; Angle: 130°; Luminous Intensity: 80mcd; SizeZ_mm: 0.5mm; AEC Qualified: No; helpURL: https://upverter.com/upn/revision/216487e6876ffd3b/; Operating Temperature Range: -40°C to +85°C; LambdaD: 630nm; Part Number: CTL0603FRD1T; PackageReference: 0603; Digikey Description: LED 0603 FLAT LENS RED; Digikey Part Number: 2679-CTL0603FRD1TTR-ND; PartNumber: CTL0603FRD1T; RoHS: TRUE; ComponentLink1Description: Datasheet; Lead Free: Yes; ComponentLink1URL: https://www.venkel.com/ctl0603frd1t; Datasheet Path: datasheets/Diode-CTL0603FRD1T.pdf; datasheet: https://www.venkel.com/ctl0603frd1t
footprint FP-CTL0603FRD1T_0603-MFG
pins: 1 CATHODE, 2 ANODE

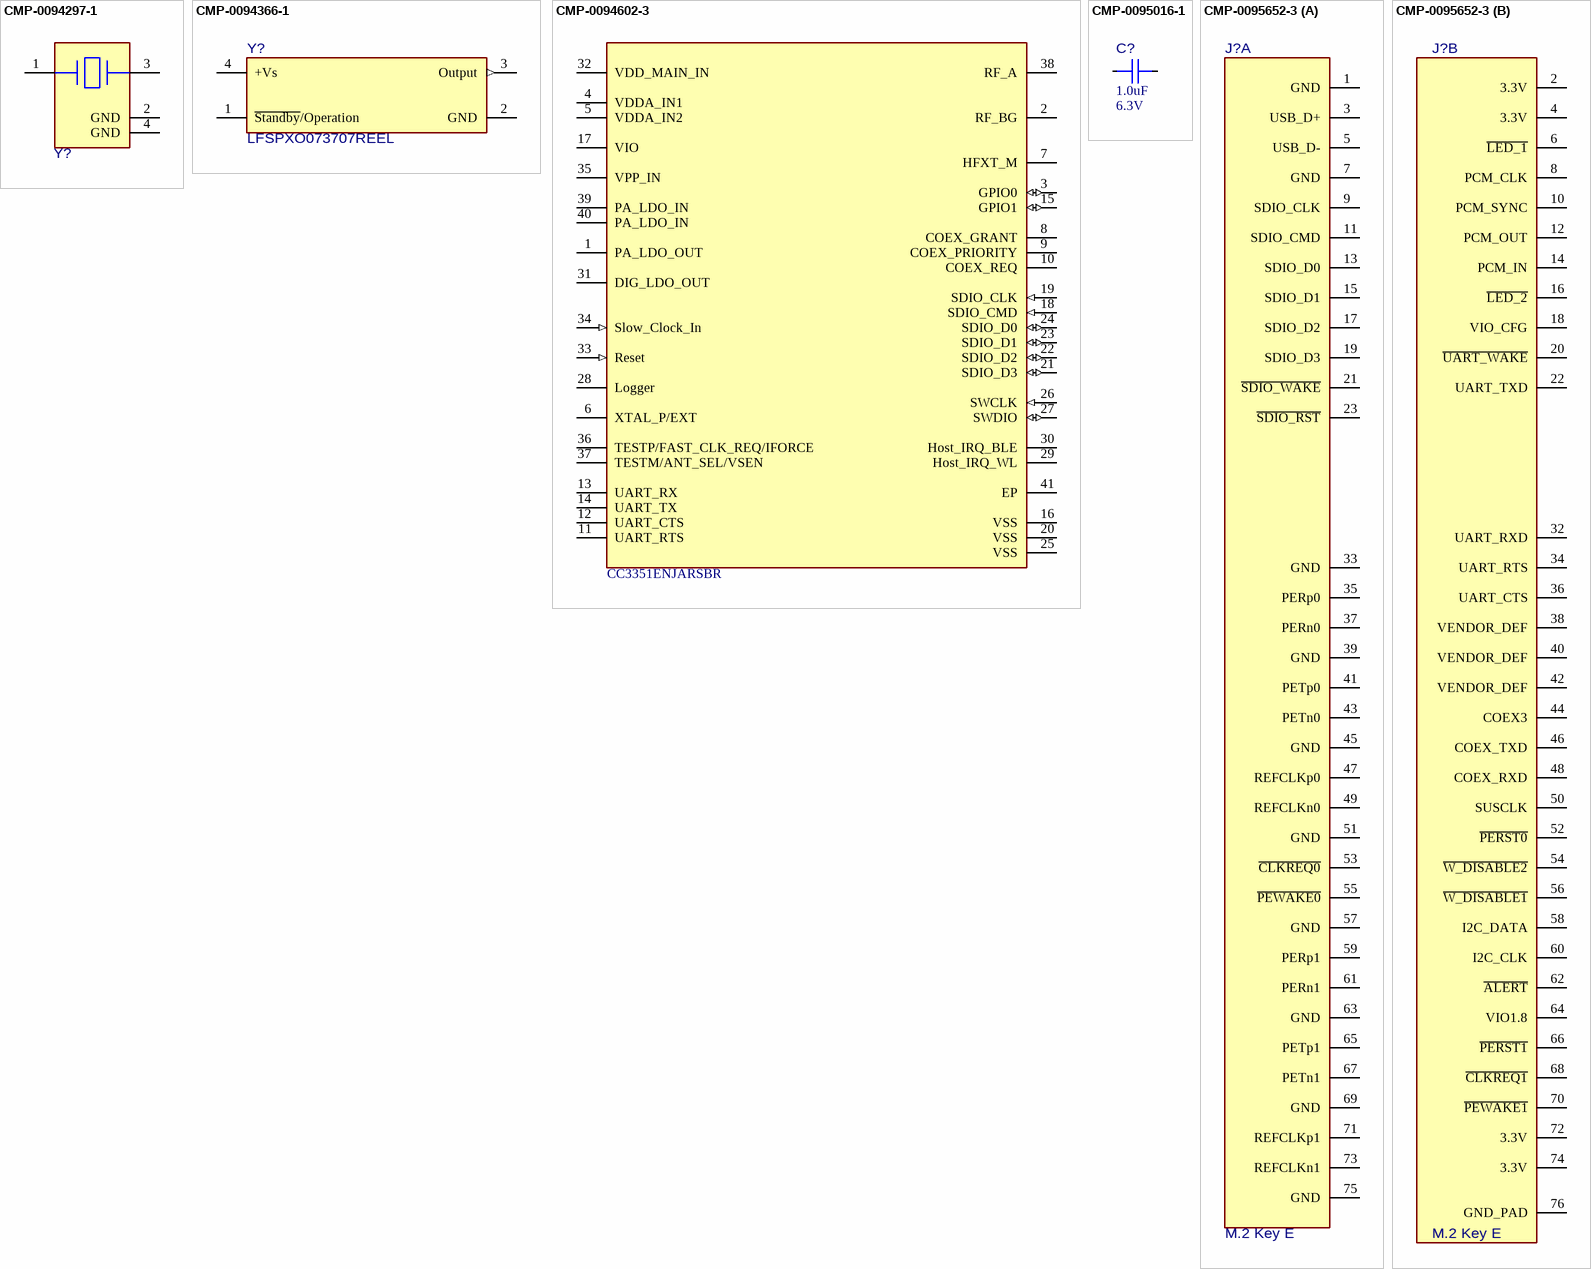
[diagram p1: symbols CMP-0094297-1 to CMP-0095652-3]

## CMP-0094297-1
designator Y?, comment TZ3877AAAO44  (value not drawn)
Crystal Unit SMD 2.0x1.6 40.0MHz; Manufacturer: TAI-SAW TECHNOLOGY; SizeZ_mm: 0.5mm; Esr: 30; Tolerance_%: 5ppm; AEC Qualified: No; Load Capacitance: 7pF; Frequency Stability: -16/+18ppm; Frequency_Fixed: 40MHz; Datasheet Path: datasheets/Crys-TZ3877AAAO44.pdf; Lead Free: Yes; PackageReference: SMT4_2MM05_1MM65; helpURL: https://upverter.com/upn/revision/ce8436adfc913ece/; Operating Temperature Range: -40°C to +105°C; PartNumber: TZ3877AAAO44; RoHS: TRUE; Frequency Tolerance: 5ppm; Part Number: TZ3877AAAO44
footprint FP-TZ3877AAAO44_SMT4_2MM05_1MM65-MFG
pins: 1 1_IN/OUT, 2 GND (power), 3 2_IN/OUT, 4 GND (power)

## CMP-0094366-1
designator Y?, comment LFSPXO073707REEL
32.768 kHz XO (Standard) CMOS Oscillator 1.8V Enable/Disable 4-SMD, No Lead; Manufacturer: IQD Frequency Products; Frequency Stability: 100ppm; Max Supply Voltage: 1.89V; Load Capacitance: 15pF; Min Supply Voltage: 1.71V; Max Supply Current: 0.2mA; SizeZ_mm: 0.8mm; ComponentLink1URL: https://www.iqdfrequencyproducts.com/products/pn/LFSPXO073707Reel.pdf; Operating Temperature Range: -40°C to +125°C; AEC Qualified: No; helpURL: https://upverter.com/upn/revision/c85886b3b224eb15/; Lead Free: Yes; Series: IQXO-404; PackageReference: SMT4_2MM0_1MM6; Part Number: LFSPXO073707REEL; Datasheet Path: datasheets/Crys-LFSPXO073707REEL.pdf; ComponentLink1Description: Datasheet; datasheet: https://www.iqdfrequencyproducts.com/products/pn/LFSPXO073707Reel.pdf; Frequency_Fixed: 32.768kHz; Digikey Part Number: 1923-1619-1-ND; Supplier 1: Digikey; Digikey Description: XTAL OSC XO 32.7680KHZ CMOS SMD; Supplier Part Number 1: 1923-1619-1-ND; PartNumber: LFSPXO073707REEL; Supplier Part Number 2: 449-LFSPXO073707REEL; Mouser Part Number: 449-LFSPXO073707REEL; Supplier 2: Mouser; RoHS: TRUE
footprint FP-LFSPXO073707REEL_SMT4_2MM0_1MM6-MFG
pins: 1 ~{Standby}/Operation, 2 GND (power), 3 Output (out), 4 +Vs (power)

## CMP-0094602-3
designator CC?, comment CC3351ENJARSBR
Manufacturer: Texas Instruments; Standoff Height: 0mm; SizeZ_mm: 0.8mm; AEC Category: Q200; CompType: IC; Operating Temperature Range: to; PackageReference: WQFN40; PartNumber: CC3351ENJARSBR; Datasheet Path: datasheets/IC-CC3301NG0ARSBR.pdf; helpURL: https://upverter.com/upn/revision/fd7ab077a3cb2386/; RoHS: UNKNOWN; Part Number: CC3351ENJARSBR; ComponentLink1Description: Datasheet Link; ComponentLink1URL: http://www.ti.com/lit/ds/symlink/GPN.pdf; ComponentLink2Description: Product Folder; ComponentLink2URL: http://www.ti.com/product/GPN; ComponentLink3Description: Online Datasheet; ComponentLink3URL: http://www.ti.com/product/GPN/datasheet
footprint RSB0040B-MFG
footprint RSB0040B-IPC_C
footprint RSB0040B-IPC_B
footprint RSB0040B-IPC_A
pins: 1 PA_LDO_OUT, 2 RF_BG, 3 GPIO0 (io), 4 VDDA_IN1 (power), 5 VDDA_IN2 (power), 6 XTAL_P/EXT, 7 HFXT_M, 8 COEX_GRANT, 9 COEX_PRIORITY, 10 COEX_REQ, 11 UART_RTS, 12 UART_CTS, 13 UART_RX, 14 UART_TX, 15 GPIO1 (io), 16 VSS (power), 17 VIO (power), 18 SDIO_CMD (in), 19 SDIO_CLK (in), 20 VSS (power), 21 SDIO_D3 (io), 22 SDIO_D2 (io), 23 SDIO_D1 (io), 24 SDIO_D0 (io), 25 VSS (power), 26 SWCLK (in), 27 SWDIO (io), 28 Logger, 29 Host_IRQ_WL, 30 Host_IRQ_BLE, 31 DIG_LDO_OUT, 32 VDD_MAIN_IN (power), 33 Reset (in), 34 Slow_Clock_In (in), 35 VPP_IN (power), 36 TESTP/FAST_CLK_REQ/IFORCE, 37 TESTM/ANT_SEL/VSEN, 38 RF_A, 39 PA_LDO_IN (power), 40 PA_LDO_IN (power), 41 EP

## CMP-0095016-1
designator C?, comment ValueDisplayed: 1.0uF  VDC_V: 6.3V  (hidden comment: GRM033D70J105ME01D)
Chip Multilayer Ceramic Capacitors for General Purpose, 0201, 1.0uF, X7T, +22%/-33%, 20%, 6.3V; Manufacturer: Murata; Cap_F: 1µF; AEC Qualified: No; Value: 1µF; SizeZ_mm: 0.39mm; Tolerance_%: 20%; Lead Free: Yes; TempCo: +22%/-33%; RoHS: TRUE; PartNumber: GRM033D70J105ME01D; ComponentLink1URL: https://www.murata.com/en-us/products/productdetail?partno=GRM033D70J105ME01%23; helpURL: https://upverter.com/upn/revision/5ad6d282b0c1b2e7/; Part Number: GRM033D70J105ME01D; ComponentLink1Description: Datasheet; Datasheet Path: datasheets/Cap-GRM033D70J105ME01D.pdf; datasheet: https://www.murata.com/en-us/products/productdetail?partno=GRM033D70J105ME01%23; PackageReference: 0201; Operating Temperature Range: -55°C to +125°C; Temperature Characteristic: X7T
footprint FP-GRM033D70J105ME01D_0201-MFG
footprint FP-GRM033D70J105ME01D_0201-IPC_C
footprint FP-GRM033D70J105ME01D_0201-IPC_B
footprint FP-GRM033D70J105ME01D_0201-IPC_A
pins: 1, 2

## CMP-0095652-3
designator J?, comment M.2 Key E  (no BOM)
PCIe Key E M.2 Altium template; DUT-Pitch_mm: 0.5mm; Row_Count: 2; Is Female: no; Conn Gender: Male; Manufacturer: Altium; PartNumber: M.2 Key E; RoHS: UNKNOWN; PinCount: 67; PackageReference: PCIe_KEYE_M2_TEMPLATE; helpURL: https://upverter.com/upn/revision/3cbdd3a0cb259fad/; Operating Temperature Range: to; Datasheet Path: datasheets/Conn-M.2 Key E.pdf; Part Number: M.2 Key E; AEC Qualified: No; PartId: 2
footprint FP-M.2 Key E_PCIe_KEYE_M2_TEMPLATE-MFG
part A pins: 1 GND, 3 USB_D+, 5 USB_D-, 7 GND, 9 SDIO_CLK, 11 SDIO_CMD, 13 SDIO_D0, 15 SDIO_D1, 17 SDIO_D2, 19 SDIO_D3, 21 ~{SDIO_WAKE}, 23 ~{SDIO_RST}, 33 GND, 35 PERp0, 37 PERn0, 39 GND, 41 PETp0, 43 PETn0, 45 GND, 47 REFCLKp0, 49 REFCLKn0, 51 GND, 53 ~{CLKREQ0}, 55 ~{PEWAKE0}, 57 GND, 59 PERp1, 61 PERn1, 63 GND, 65 PETp1, 67 PETn1, 69 GND, 71 REFCLKp1, 73 REFCLKn1, 75 GND
part B pins: 2 3.3V, 4 3.3V, 6 ~{LED_1}, 8 PCM_CLK, 10 PCM_SYNC, 12 PCM_OUT, 14 PCM_IN, 16 ~{LED_2}, 18 VIO_CFG, 20 ~{UART_WAKE}, 22 UART_TXD, 32 UART_RXD, 34 UART_RTS, 36 UART_CTS, 38 VENDOR_DEF, 40 VENDOR_DEF, 42 VENDOR_DEF, 44 COEX3, 46 COEX_TXD, 48 COEX_RXD, 50 SUSCLK, 52 ~{PERST0}, 54 ~{W_DISABLE2}, 56 ~{W_DISABLE1}, 58 I2C_DATA, 60 I2C_CLK, 62 ~{ALERT}, 64 VIO1.8, 66 ~{PERST1}, 68 ~{CLKREQ1}, 70 ~{PEWAKE1}, 72 3.3V, 74 3.3V, 76 GND_PAD